# Altium schematic symbol library TEN_5-xx1x.Schlib: 1 symbol
Pins are listed as number, name and electrical type; pins without a type are passive.

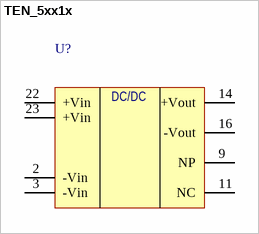
[diagram p0: symbol TEN_5xx1x]

## TEN_5xx1x
designator U?  Наименование: TEN 5-2412  (hidden comment: TEN_5xx1x)
DC-DC Converter; Назначение: DC-DC преобразователь; Потрбление, Вт: 0.01; ComponentLink1Description: DataSheet; ComponentLink1URL: https://www.tracopower.com/sites/default/files/products/datasheets/ten5_datasheet.pdf
footprint TEN_5
pins: 2 -Vin (power), 3 -Vin (power), 9 NP "No pin", 11 NC "No connection", 14 +Vout (power), 16 -Vout (power), 22 +Vin (power), 23 +Vin (power)
text: DC/DC